# Altium footprint library PCBLib.PcbLib: 168 footprints (part 10 of 11)
Each footprint in its own frame and in the unit in brackets; x right, y up, seen from the top. Pads: shape width x height; smd on the part's side, far side on the other; paste and mask are expansions set on the pad; w line width, h text height; cw(c..) or ccw(c..) is an arc to the next point about the centre after c.
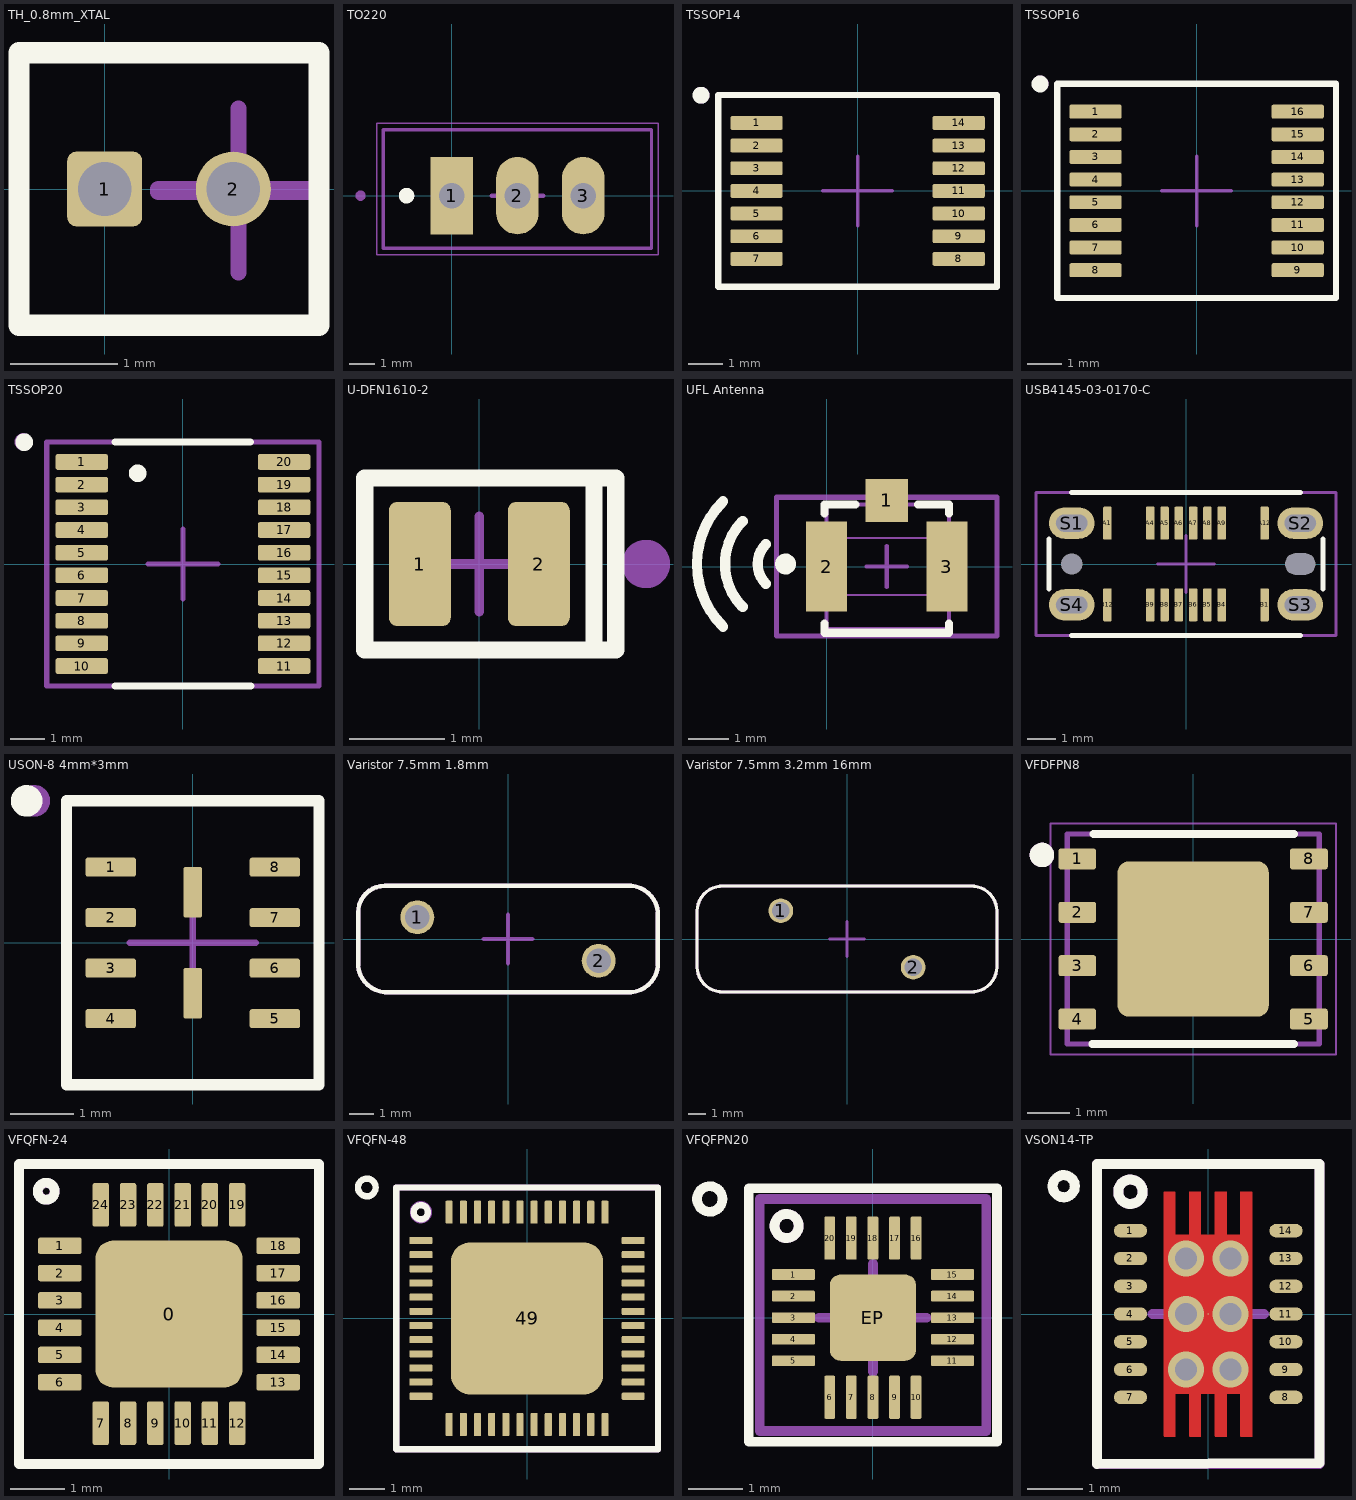
[diagram p9: the footprints below, top view; thin cyan lines are the x and y axes]

## TH_0.8mm_XTAL [mm]
pads (2):
  rrect25% 0.7x0.7 hole 0.5 mask+0.05: 1(0,0)
  round 0.7 hole 0.5 mask+0.05: 2(1.2,0)
Top Overlay:
  lines w0.2: -0.8,-1.27 2,-1.27 2,1.27 -0.8,1.27 -0.8,-1.27
Bottom Overlay:
  lines w0.2: -0.8,-1.27 2,-1.27 2,1.27 -0.8,1.27 -0.8,-1.27
Top Assembly:
  lines w0.1: -0.8,-1.27 -0.8,1.27 2,1.27 2,-1.27 -0.8,-1.27
Bottom Assembly:
  lines w0.1: -0.8,-1.27 -0.8,1.27 2,1.27 2,-1.27 -0.8,-1.27
Top Component Center:
  lines w0.15: 0.5,0 1.25,0 ; 1.25,-0.75 1.25,0 ; 1.25,0.75 1.25,0 ; 2,0 1.25,0
Bottom Component Center:
  lines w0.15: 0.5,-0.028 1.25,-0.028 ; 1.25,-0.778 1.25,-0.028 ; 1.25,0.722 1.25,-0.028 ; 2,-0.028 1.25,-0.028
Top Courtyard:
  lines w0.1: -0.8,-1.27 2,-1.27 2,1.27 -0.8,1.27 -0.8,-1.27
Bottom Courtyard:
  lines w0.1: -0.8,-1.27 2,-1.27 2,1.27 -0.8,1.27 -0.8,-1.27
Top Designator:
  text ".Designator" at -2.573,-0.254 h0.76
3D body "AB26T-32.768KHZ.stp": height 6.1, standoff -6.1, extent -0.463,-1.05 1.622,1.05

## TO220 [mm]
pads (3):
  rect 1.65x3 hole 1: 1(0,0)
  oval 1.65x3 hole 1: 2(2.55,0) 3(5.1,0)
Top Overlay:
  circle w0.3: c-1.75,0 r0.15
Top Assembly:
  circle w0.2: c-3.533,0.001 r0.1
  lines w0.127: -2.65,-2.04 -2.65,2.56 7.75,2.56 7.75,-2.04 -2.65,-2.04
Top Component Center:
  lines w0.18: 1.55,0 3.55,0 ; 2.55,-1 2.55,1
Top Courtyard:
  lines w0.05: -2.9,-2.29 -2.9,2.81 8,2.81 8,-2.29 -2.9,-2.29
Top Designator:
  text ".Designator" at -1.259,-0.254 h0.76
3D body "STP75NF75.step": height 22.22, standoff -8.36, extent -2.61,-2.032 7.69,2.54

## TSSOP14 [mm]
pads (14):
  rrect25% 1.5x0.4 smd mask+0.05: 1(-2.9,1.95) 2(-2.9,1.3) 3(-2.9,0.65) 4(-2.9,0) 5(-2.9,-0.65) 6(-2.9,-1.3) 7(-2.9,-1.95) 8(2.9,-1.95) 9(2.9,-1.3) 10(2.9,-0.65) 11(2.9,0) 12(2.9,0.65) 13(2.9,1.3) 14(2.9,1.95)
Top Overlay:
  circle w0.254: c-4.494,2.744 r0.115
  lines w0.18: -4,-2.75 -4,2.75 4,2.75 4,-2.75 -4,-2.75
Top Assembly:
  circle w0.254: c-4.488,2.75 r0.11
  lines w0.1: -4,-2.75 4,-2.75 4,2.75 -4,2.75 -4,-2.75
Top Component Center:
  lines w0.1: -1,0 1,0 ; 0,-1 0,1
Top Courtyard:
  lines w0.05: -4,-2.75 4,-2.75 4,2.75 -4,2.75 -4,-2.75
Top Designator:
  text ".Designator" at -3.809,-0.254 h0.76
3D body "TXS0104EPWR.step": height 1.2, standoff 0, extent -3.2,-2.5 3.2,2.5

## TSSOP16 [mm]
pads (16):
  rrect25% 1.5x0.4 smd mask+0.05: 1(-2.9,2.275) 2(-2.9,1.625) 3(-2.9,0.975) 4(-2.9,0.325) 5(-2.9,-0.325) 6(-2.9,-0.975) 7(-2.9,-1.625) 8(-2.9,-2.275) 9(2.9,-2.275) 10(2.9,-1.625) 11(2.9,-0.975) 12(2.9,-0.325) 13(2.9,0.325) 14(2.9,0.975) 15(2.9,1.625) 16(2.9,2.275)
Top Overlay:
  circle w0.254: c-4.494,3.069 r0.115
  lines w0.18: -4,-3.075 4,-3.075 4,3.075 -4,3.075 -4,-3.075
Top Assembly:
  circle w0.254: c-4.488,3.075 r0.11
  lines w0.1: -4,-3.075 -4,3.075 4,3.075 4,-3.075 -4,-3.075
Top Component Center:
  lines w0.1: -1,0 1,0 ; 0,-1 0,1
Top Courtyard:
  lines w0.05: -4,-3.075 -4,3.075 4,3.075 4,-3.075 -4,-3.075
Top Designator:
  text ".Designator" at -3.809,-0.254 h0.76
3D body "RU_16_ADI.step": height 1.2, standoff 0, extent -3.2,-2.553 3.2,2.553

## TSSOP20 [mm]
pads (20):
  rrect25% 1.5x0.45 smd mask+0.05: 1(-2.9,2.925) 2(-2.9,2.275) 3(-2.9,1.625) 4(-2.9,0.975) 5(-2.9,0.325) 6(-2.9,-0.325) 7(-2.9,-0.975) 8(-2.9,-1.625) 9(-2.9,-2.275) 10(-2.9,-2.925) 11(2.9,-2.925) 12(2.9,-2.275) 13(2.9,-1.625) 14(2.9,-0.975) 15(2.9,-0.325) 16(2.9,0.325) 17(2.9,0.975) 18(2.9,1.625) 19(2.9,2.275) 20(2.9,2.925)
Top Overlay:
  circle w0.254: c-1.3,2.6 r0.125
  circle w0.254: c-4.548,3.492 r0.125
  lines w0.2: -1.95,-3.5 1.95,-3.5 ; -1.95,3.5 1.934,3.5
Top Assembly:
  circle w0.254: c-4.573,3.5 r0.125
  lines w0.15: -3.9,-3.5 -3.9,3.5 3.9,3.5 3.9,-3.5 -3.9,-3.5
Top Component Center:
  lines w0.15: -1,0 1,0 ; 0,-1 0,1
Top Courtyard:
  lines w0.05: -3.9,-3.5 -3.9,3.5 3.9,3.5 3.9,-3.5 -3.9,-3.5
Top Designator:
  text ".Designator" at -3.809,-0.254 h0.76
3D body "TXS0108EPWR.step": height 1.2, standoff 0, extent -3.2,-3.25 3.2,3.25

## U-DFN1610-2 [mm]
pads (2):
  rrect25% 0.65x1.3 smd: 1(-0.625,0) 2(0.625,0)
Top Overlay:
  lines w0.18: 1.204,-0.904 -1.204,-0.904 -1.204,0.904 1.204,0.904 ; 1.204,-0.904 1.204,0.904 ; 1.204,-0.904 1.433,-0.904 1.433,0.904 1.204,0.904
Top Assembly:
  circle w0.254: c1.75,0 r0.127
  lines w0.1: -1.204,-0.904 1.204,-0.904 1.204,0.904 -1.204,0.904 -1.204,-0.904
Top Component Center:
  lines w0.1: -0.5,0 0,0 0.5,0 ; 0,-0.5 0,0.5
Top Courtyard:
  lines w0.05: -1.204,-0.904 1.204,-0.904 1.204,0.904 -1.204,0.904 -1.204,-0.904
Top Designator:
  text ".Designator" at -3.809,-0.254 h0.76
3D body "DIO_D4V5H1U2LP1610-7_DIO.step": height 0.61, standoff 0, extent -0.826,-0.521 0.826,0.521

## UFL Antenna [mm]
pads (3):
  rect 1.05x1.05 smd mask+0.102: 1(1.473,1.62)
  rect 1x2.2 smd mask+0.102: 2(-0.002,0) 3(2.948,0)
Top Overlay:
  circle w0.254: c-1.005,0.064 r0.127
  lines w0.2: -0.051,-1.397 -0.051,-1.62 0.423,-1.62 2.523,-1.62 2.997,-1.62 2.997,-1.397 ; -0.051,1.302 -0.051,1.524 0.711,1.524 ; 2.235,1.524 2.997,1.524 2.997,1.302
  lines w0.254: -2.54,-1.47 cw(c-1.005,0.064) -2.54,1.599 ; -2.056,-0.987 cw(c-1.005,0.064) -2.056,1.115 ; -1.489,-0.419 cw(c-1.005,0.064) -1.489,0.548
Top Assembly:
  lines w0.127: -1.227,-1.7 -1.227,1.7 4.173,1.7 4.173,-1.7 -1.227,-1.7
Top Component Center:
  lines w0.1: 0.973,0 1.973,0 ; 1.473,-0.5 1.473,0.5
Top Courtyard:
  lines w0.05: -0.027,-0.7 2.973,-0.7 2.973,0.7 -0.027,0.7 -0.027,-0.7
  lines w0.127: -1.227,-1.7 4.173,-1.7 4.173,1.7 -1.227,1.7 -1.227,-1.7
Top Designator:
  text "'.Designator'" at 6.83,0.56 h2.54
Top 3D Body:
  lines w0.1: 0,-1.524 0,1.524 2.998,1.524 2.998,-1.524 0,-1.524
3D body "u_fl-r-smt-1_10_.stp": height 1.26, standoff 0.01, extent -0.002,-1.55 2.998,1.55

## USB4145-03-0170-C [mm]
pads (22):
  rrect25% 0.3x1.15 smd mask+0.05: A1(-2.75,1.43) A4(-1.25,1.43) A5(-0.75,1.43) A6(-0.25,1.43) A7(0.25,1.43) A8(0.75,1.43) A9(1.25,1.43) A12(2.75,1.43) B1(2.75,-1.43) B4(1.25,-1.43) B5(0.75,-1.43) B6(0.25,-1.43) B7(-0.25,-1.43) B8(-0.75,-1.43) B9(-1.25,-1.43) B12(-2.75,-1.43)
  rrect100% 1.6x1.1 hole 0.6 slot 1.1 at 0 deg mask+0.05: S1(-4,1.43) S2(4,1.43) S3(4,-1.43) S4(-4,-1.43)
  rrect0% 0x0 hole 0.75 mask+0.05: S4(-4,0)
  rrect0% 0x0 hole 0.75 slot 1.05 at 0 deg mask+0.05: S4(4,0)
Top Overlay:
  lines w0.18: -4.8,-0.88 -4.8,0.88 ; -4,-2.5 4,-2.5 ; -4,2.5 4,2.5 ; 4.8,-0.88 4.8,0.88
Top Assembly:
  lines w0.1: -5.25,-2.5 5.25,-2.5 5.25,2.5 -5.25,2.5 -5.25,-2.5
Top Component Center:
  lines w0.1: -1,0 1,0 ; 0,-1 0,1
Top Courtyard:
  lines w0.05: -5.25,-2.5 5.25,-2.5 5.25,2.5 -5.25,2.5 -5.25,-2.5
Top Designator:
  text ".Designator" at -3.809,-0.254 h0.76
3D body "USB4145-03-0170-C.stp": height 7.4, standoff -1.76, extent -4.47,-1.845 4.47,1.845

## USON-8 4mm*3mm [mm]
pads (10):
  rrect25% 0.8x0.3 smd mask+0.05: 1(-1.3,1.2) 2(-1.3,0.4) 3(-1.3,-0.4) 4(-1.3,-1.2) 5(1.3,-1.2) 6(1.3,-0.4) 7(1.3,0.4) 8(1.3,1.2)
  rrect25% 0.3x0.8 smd mask+0.05: ""(0,-0.798) ""(0,0.801)
Top Overlay:
  circle w0.254: c-2.632,2.25 r0.122
  lines w0.18: -2,-2.25 2,-2.25 2,2.25 -2,2.25 -2,-2.25
Top Assembly:
  circle w0.254: c-2.509,2.25 r0.122
  lines w0.1: -2,-2.25 -2,2.25 2,2.25 2,-2.25 -2,-2.25
Top Component Center:
  lines w0.1: -1,0 1,0 ; 0,-1 0,1
Top Courtyard:
  lines w0.05: -2,-2.25 -2,2.25 2,2.25 2,-2.25 -2,-2.25
Top Designator:
  text ".Designator" at -3.809,-0.254 h0.76
3D body "W25Q64JWUUIQ_TR.stp": height 0.7, standoff 0, extent -1.5,-2 1.5,2

## Varistor 7.5mm 1.8mm [mm]
pads (2):
  round 1.4 hole 1 mask+0.05: 1(-3.75,0.9) 2(3.75,-0.9)
Top Overlay:
  lines w0.18: -6.2,-0.907 -6.2,1.093 ; -6.2,-0.9 ccw(c-5,-1) -5.1,-2.2 5.1,-2.2 ccw(c5,-1) 6.2,-0.9 6.2,0.9 ccw(c5,1) 5.1,2.2 -5.1,2.2 ccw(c-5.1,1.1) -6.2,1.1
Top Assembly:
  lines w0.18: -6.2,-0.907 -6.2,1.093 ; -6.2,-0.9 ccw(c-5,-1) -5.1,-2.2 5.1,-2.2 ccw(c5,-1) 6.2,-0.9 6.2,0.9 ccw(c5,1) 5.1,2.2 -5.1,2.2 ccw(c-5.1,1.1) -6.2,1.1
Top Component Center:
  lines w0.18: -1,0 1,0 ; 0,-1 0,1
Top Courtyard:
  lines w0.05: -6.2,-0.907 -6.2,1.093 ; -6.2,-0.9 ccw(c-5,-1) -5.1,-2.2 5.1,-2.2 ccw(c5,-1) 6.2,-0.9 6.2,0.9 ccw(c5,1) 5.1,2.2 -5.1,2.2 ccw(c-5.1,1.1) -6.2,1.1
Top Designator:
  text ".Designator" at -3.809,-0.254 h0.76
3D body "s10k275e2.step": height 12.75, standoff -25.18, extent -5.75,-1.55 5.75,1.55

## Varistor 7.5mm 3.2mm 16mm [mm]
pads (2):
  round 1.4 hole 1 mask+0.05: 1(-3.75,1.6) 2(3.75,-1.6)
Top Overlay:
  lines w0.18: 8.5,-0.9 8.5,0.9 ; -8.5,-1.6 ccw(c-7.05,-1.55) -7,-3 -5.1,-3 5.1,-3 7,-3 ccw(c7.05,-1.55) 8.5,-1.6 8.5,1.6 ccw(c7.05,1.55) 7,3 5.1,3 -5.1,3 -7,3 ccw(c-7.05,1.55) -8.5,1.6 -8.5,-1.6
Top Assembly:
  lines w0.18: 8.5,-0.9 8.5,0.9 ; -8.5,-1.6 ccw(c-7.05,-1.55) -7,-3 -5.1,-3 5.1,-3 7,-3 ccw(c7.05,-1.55) 8.5,-1.6 8.5,1.6 ccw(c7.05,1.55) 7,3 5.1,3 -5.1,3 -7,3 ccw(c-7.05,1.55) -8.5,1.6 -8.5,-1.6
Top Component Center:
  lines w0.18: -1,0 1,0 ; 0,-1 0,1
Top Courtyard:
  lines w0.05: 8.5,-0.9 8.5,0.9 ; -8.5,-1.6 ccw(c-7.05,-1.55) -7,-3 -5.1,-3 5.1,-3 7,-3 ccw(c7.05,-1.55) 8.5,-1.6 8.5,1.6 ccw(c7.05,1.55) 7,3 5.1,3 -5.1,3 -7,3 ccw(c-7.05,1.55) -8.5,1.6 -8.5,-1.6
Top Designator:
  text ".Designator" at -3.809,-0.254 h0.76
3D body "s14k275e2k1.step": height 17.25, standoff -24.75, extent -6.746,-2.942 6.746,2.942

## VFDFPN8 [mm]
pads (9):
  rrect25% 0.9x0.5 smd mask+0.05: 1(-2.758,1.905) 2(-2.758,0.635) 3(-2.758,-0.635) 4(-2.758,-1.905) 5(2.755,-1.905) 6(2.755,-0.635) 7(2.755,0.635) 8(2.755,1.905)
  rrect15% 3.6x3.7 smd paste-3: ""(0,0)
Top Overlay:
  circle w0.3: c-3.6,2 r0.141
  lines w0.18: -2.4,-2.5 2.4,-2.5 ; -2.373,2.5 2.4,2.5
Top Paste:
  region: -0.18,0.18 -1.5,0.18 -1.5,1.45 -0.18,1.45
  region: 1.5,0.18 0.18,0.18 0.18,1.45 1.5,1.45
  region: -0.18,-1.45 -1.5,-1.45 -1.5,-0.18 -0.18,-0.18
  region: 1.5,-1.45 0.18,-1.45 0.18,-0.18 1.5,-0.18
Top Assembly:
  circle w0.3: c-3.6,2 r0.141
  lines w0.127: -3,-2.5 3,-2.5 3,2.5 -3,2.5 -3,-2.5
Top Component Center:
  lines w0.18: -1,0 1,0 ; 0,-1 0,1
Top Courtyard:
  lines w0.05: -3.4,-2.75 3.4,-2.75 3.4,2.75 -3.4,2.75 -3.4,-2.75
Top Designator:
  text ".Designator" at -3.809,-0.254 h0.76
3D body "SIM-ST-MFF2--3DModel-STEP-56544.STEP": height 0.82, standoff 0, extent -3,-2.5 3,2.5

## VFQFN-24 [mm]
pads (25):
  rrect25% 2.7x2.7 smd mask+0.05: 0(0,0)
  rrect25% 0.8x0.3 smd mask+0.05: 1(-2,1.25) 2(-2,0.75) 3(-2,0.25) 4(-2,-0.25) 5(-2,-0.75) 6(-2,-1.25) 13(2,-1.25) 14(2,-0.75) 15(2,-0.25) 16(2,0.25) 17(2,0.75) 18(2,1.25)
  rrect25% 0.3x0.8 smd mask+0.05: 7(-1.25,-2) 8(-0.75,-2) 9(-0.25,-2) 10(0.25,-2) 11(0.75,-2) 12(1.25,-2) 19(1.25,2) 20(0.75,2) 21(0.25,2) 22(-0.25,2) 23(-0.75,2) 24(-1.25,2)
Top Overlay:
  circle w0.18: c-2.25,2.25 r0.156
  lines w0.18: -2.75,-2.75 2.75,-2.75 2.75,2.75 -2.75,2.75 -2.75,-2.75
Top Assembly:
  circle w0.18: c-2.25,2.25 r0.152
  lines w0.15: -2.75,-2.75 2.75,-2.75 2.75,2.75 -2.75,2.75 -2.75,-2.75
Top Component Center:
  lines w0.18: -1,0 1,0 ; 0,-1 0,1
Top Courtyard:
  lines w0.05: -2.75,-2.75 -2.75,2.75 2.75,2.75 2.75,-2.75 -2.75,-2.75
Top Designator:
  text ".Designator" at -3.809,-0.254 h0.76
3D body "QFN24_4X4_SEM.step": height 0.99, standoff 0, extent -2.045,-2.045 2.045,2.045

## VFQFN-48 [mm]
pads (49):
  rrect25% 0.65x0.2 smd mask+0.05: 1(-3,2.2) 2(-3,1.8) 3(-3,1.4) 4(-3,1) 5(-3,0.6) 6(-3,0.2) 7(-3,-0.2) 8(-3,-0.6) 9(-3,-1) 10(-3,-1.4) 11(-3,-1.8) 12(-3,-2.2) 25(3,-2.2) 26(3,-1.8) 27(3,-1.4) 28(3,-1) 29(3,-0.6) 30(3,-0.2) 31(3,0.2) 32(3,0.6) 33(3,1) 34(3,1.4) 35(3,1.8) 36(3,2.2)
  rrect25% 0.2x0.65 smd mask+0.05: 13(-2.2,-3) 14(-1.8,-3) 15(-1.4,-3) 16(-1,-3) 17(-0.6,-3) 18(-0.2,-3) 19(0.2,-3) 20(0.6,-3) 21(1,-3) 22(1.4,-3) 23(1.8,-3) 24(2.2,-3) 37(2.2,3) 38(1.8,3) 39(1.4,3) 40(1,3) 41(0.6,3) 42(0.2,3) 43(-0.2,3) 44(-0.6,3) 45(-1,3) 46(-1.4,3) 47(-1.8,3) 48(-2.2,3)
  rrect25% 4.3x4.3 smd mask+0.05: 49(0,0)
Top Overlay:
  circle w0.18: c-4.527,3.7 r0.249
  circle w0.18: c-3,3 r0.2
  lines w0.18: -3.7,-3.7 3.7,-3.7 3.7,3.7 -3.7,3.7 -3.7,-3.7
Top Assembly:
  circle w0.18: c-3,3 r0.224
  lines w0.18: -3.7,-3.7 3.7,-3.7 3.7,3.7 -3.7,3.7 -3.7,-3.7
Top Component Center:
  lines w0.18: -1,0 1,0 ; 0,-1 0,1
Top Courtyard:
  lines w0.05: -3.7,-3.7 3.7,-3.7 3.7,3.7 -3.7,3.7 -3.7,-3.7
Top Designator:
  text ".Designator" at -3.809,-0.254 h0.76
3D body "QFN-48_NOR.step": height 0.89, standoff 0, extent -2.997,-2.997 2.997,2.997

## VFQFPN20 [mm] "3mm*3mm*1mm 20 lead 0.4mm pitch"
pads (21):
  rrect25% 0.8x0.2 smd mask+0.05: 1(-1.475,0.8) 2(-1.475,0.4) 3(-1.475,0) 4(-1.475,-0.4) 5(-1.475,-0.8) 11(1.475,-0.8) 12(1.475,-0.4) 13(1.475,0) 14(1.475,0.4) 15(1.475,0.8)
  rrect25% 0.2x0.8 smd mask+0.05: 6(-0.8,-1.475) 7(-0.4,-1.475) 8(0,-1.475) 9(0.4,-1.475) 10(0.8,-1.475) 16(0.8,1.475) 17(0.4,1.475) 18(0,1.475) 19(-0.4,1.475) 20(-0.8,1.475)
  rrect25% 1.6x1.6 smd mask+0.05: EP(0,0)
Top Overlay:
  circle w0.18: c-1.6,1.7 r0.224
  circle w0.18: c-3.025,2.2 r0.236
  lines w0.18: -2.3,-2.3 2.3,-2.3 2.3,2.4 -2.3,2.4 -2.3,-2.3
Top Assembly:
  circle w0.18: c-1.6,1.7 r0.224
  lines w0.18: -2.1,-2.1 2.1,-2.1 2.1,2.2 -2.1,2.2 -2.1,-2.1
Top Component Center:
  lines w0.18: -1,0 1,0 ; 0,-1 0,1
Top Courtyard:
  lines w0.05: -2.3,-2.3 -2.3,2.4 2.3,2.4 2.3,-2.3 -2.3,-2.3
Top Designator:
  text ".Designator" at -3.809,-0.254 h0.76
3D body "VFQFPN20_3X3_STM.step": height 0.99, standoff 0, extent -1.575,-1.575 1.575,1.575

## VSON14-TP [mm]
pads (19):
  rrect100% 0.6x0.24 smd mask+0.05: 1(-1.4,1.5) 2(-1.4,1) 3(-1.4,0.5) 4(-1.4,0) 5(-1.4,-0.5) 6(-1.4,-1) 7(-1.4,-1.5) 8(1.4,-1.5) 9(1.4,-1) 10(1.4,-0.5) 11(1.4,0) 12(1.4,0.5) 13(1.4,1) 14(1.4,1.5)
  round 0.025 smd mask+0.05: 15(0,0)
  round 0.025 on Top Paste mask+0.05: ""(-0.46,1.35) ""(-0.46,-1.35) ""(0.46,1.35) ""(0.46,-1.35)
via -0.4,1 diameter 0.65 hole 0.4
via 0.4,1 diameter 0.65 hole 0.4
via 0.4,0 diameter 0.65 hole 0.4
via -0.4,0 diameter 0.65 hole 0.4
via -0.4,-1 diameter 0.65 hole 0.4
via 0.4,-1 diameter 0.65 hole 0.4
Top Layer:
  region: -0.79,-2.2 -0.59,-2.2 -0.59,-1.425 -0.33,-1.425 -0.33,-2.2 -0.13,-2.2 -0.13,-1.425 0.13,-1.425 0.13,-2.2 0.33,-2.2 0.33,-1.425 0.59,-1.425 0.59,-2.2 0.79,-2.2 0.79,2.2 0.59,2.2 0.59,1.425 0.33,1.425 0.33,2.2 0.13,2.2 0.13,1.425 -0.13,1.425 -0.13,2.2 -0.33,2.2 -0.33,1.425 -0.59,1.425 -0.59,2.2 -0.79,2.2
  lines w0.01: -0.79,-2.2 -0.59,-2.2 -0.59,-1.425 -0.33,-1.425 -0.33,-2.2 -0.13,-2.2 -0.13,-1.425 0.13,-1.425 0.13,-2.2 0.33,-2.2 0.33,-1.425 0.59,-1.425 0.59,-2.2 0.79,-2.2 0.79,2.2 0.59,2.2 0.59,1.425 0.33,1.425 0.33,2.2 0.13,2.2 0.13,1.425 -0.13,1.425 -0.13,2.2 -0.33,2.2 -0.33,1.425 -0.59,1.425 -0.59,2.2 -0.79,2.2 -0.79,-2.2
Top Overlay:
  circle w0.18: c-1.4,2.2 r0.22
  circle w0.18: c-2.6,2.3 r0.2
  lines w0.18: -2,-2.697 -2,2.697 2,2.697 2,-2.681 -2,-2.697
Top Paste:
  region: 0.79,-0.5 0.79,-2.2 0.59,-2.2 0.59,-1.425 0.33,-1.425 0.33,-2.2 0.13,-2.2 0.13,-0.5
  region: -0.13,-0.5 -0.13,-2.2 -0.33,-2.2 -0.33,-1.425 -0.59,-1.425 -0.59,-2.2 -0.79,-2.2 -0.79,-0.5
  region: 0.13,0.5 0.13,2.2 0.33,2.2 0.33,1.425 0.59,1.425 0.59,2.2 0.79,2.2 0.79,0.5
  region: -0.79,0.5 -0.79,2.2 -0.59,2.2 -0.59,1.425 -0.33,1.425 -0.33,2.2 -0.13,2.2 -0.13,0.5
  lines w0.01: -0.79,0.5 -0.13,0.5 -0.13,2.2 -0.33,2.2 -0.33,1.425 -0.59,1.425 -0.59,2.2 -0.79,2.2 -0.79,0.5
Top Assembly:
  circle w0.18: c-1.4,2.2 r0.22
  lines w0.18: -2,-2.7 -2,2.7 2,2.7 2,-2.7 -2,-2.7
Top Component Center:
  lines w0.18: -1,0 1,0 ; 0,-1 0,1
Top Courtyard:
  lines w0.05: -2,-2.7 2,-2.7 2,2.691 -1.004,2.7 -2,2.7 -2,-2.7
Top Designator:
  text ".Designator" at -3.809,-0.254 h0.76
3D body "TPS63020DSJR.step": height 1, standoff 0, extent -1.5,-2 1.5,2